# EAGLE library part PIC12F508 (library microchip_pic12f)
Low pincount microcontroller http://www.microchip.com/wwwproducts/Devices.aspx?product=PIC12F508 Properties Parameter Name Value Program Memory Type Flash Program Memory (KB) 0.75 CPU Speed (MIPS) 1 RAM Bytes 25 Timers 1 x 8-bit Temperature Range (C) -40 to 125 Operating Voltage Range (V) 2 to 5.5 Pin Count 8 Features Precision 4 MHz internal oscillator Baseline Core with 33 Instructions, 2 Stack Levels All single-cycle Instructions except for program branches which are two cycles 12-bit wide instructions 8-bit wide data path 25 mA source/sink current I/O Low power (100nA) sleep current One 8-bit timer (TMR0) Watchdog timer (WDT) In Circuit Serial Programming™ (ICSP™) capability In-Circuit debugging support Programmable code protection Library from www.mikroelektroniikka.fi/lbr
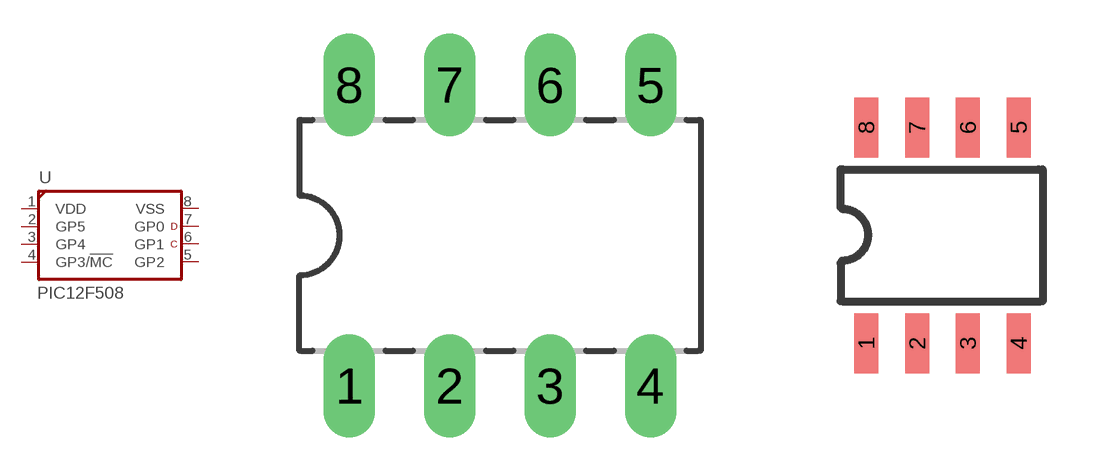
[diagram p7: symbol with the pads of DIL8-P; footprints DIL8-P, SOIC8-SN]

Designator prefix U

## PIC12F508/P  [DIL8-P]
1  VDD  pas
2  GP5
3  GP4
4  GP3/!MC!
5  GP2
6  GP1
7  GP0
8  VSS  pas

## PIC12F508/SN  [SOIC8-SN]
Pads as for DIL8-P

## PIC12F508/MS  [MSOP8-MS]
Pads as for DIL8-P

## PIC12F508/MC  [DFN8-MC]
1  VDD  pas
2  GP5
3  GP4
4  GP3/!MC!
5  GP2
6  GP1
7  GP0
8  VSS  pas
EP  VSS  pas

## Footprint DIL8-P (pad centres in mm)
PDIP8 (P) 8-Lead plastic dual in line - 300mil body
drill 0.8 pad 1.3 long: 1 -3.81,-3.81; 2 -1.27,-3.81; 3 1.27,-3.81; 4 3.81,-3.81; 5 3.81,3.81; 6 1.27,3.81; 7 -1.27,3.81; 8 -3.81,3.81

## Footprint SOIC8-SN (pad centres in mm)
SOIC8 (SN) 8-Lead plastic small outline - narrow - 3.9 mm body
smd 0.6 x 1.5: 1 -1.905,-2.7; 2 -0.635,-2.7; 3 0.635,-2.7; 4 1.905,-2.7; 5 1.905,2.7; 6 0.635,2.7; 7 -0.635,2.7; 8 -1.905,2.7

## Footprint MSOP8-MS (pad centres in mm)
MSOP8 (MS) 8-Lead plastic micro small outline package 3 mm body 0.65 mm pitch - TSSOP8
smd 0.6 x 1.15: 1 -1.05,-2.175; 4 1.05,-2.175; 5 1.05,2.175; 8 -1.05,2.175
smd 0.45 x 1.15: 2 -0.325,-2.175; 3 0.325,-2.175; 6 0.325,2.175; 7 -0.325,2.175

## Footprint DFN8-MC (pad centres in mm)
DFN8 (MC) 8-Lead plastic dual flat, no lead package - 2x3x0.9 mm (Microchip)
smd 0.3 x 0.6: 1 -0.75,-1.525; 2 -0.25,-1.525; 3 0.25,-1.525; 4 0.75,-1.525; 5 0.75,1.525; 6 0.25,1.525; 7 -0.25,1.525; 8 -0.75,1.525
smd 1.45 x 1.75: EP 0,0